# EAGLE library part FRONT-PANEL (library kmod-connectors)
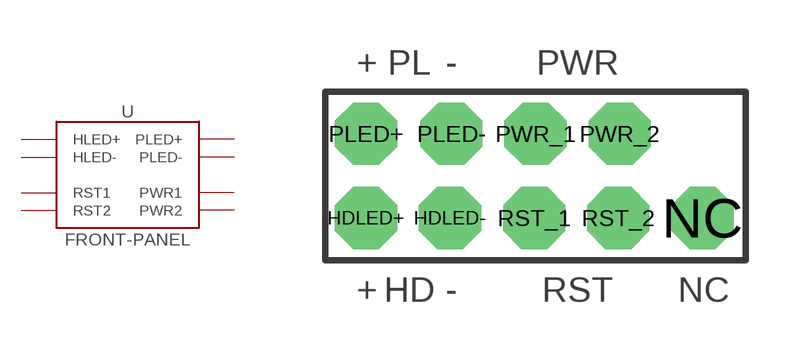
[diagram p15: symbol with the pads of FRONT-PANEL; footprint FRONT-PANEL]

Designator prefix -

## FRONT-PANEL  [FRONT-PANEL]
HDLED+  HLED+
HDLED-  HLED-
PLED+  PLED+
PLED-  PLED-
PWR_1  PWR1
PWR_2  PWR2
RST_1  RST1
RST_2  RST2

## Footprint FRONT-PANEL (pad centres in mm)
Standard(?) front-panel header on motherboards This is the best image I can find: http://www.intel.com/support/motherboards/desktop/sb/img/fpanel.jpg From this larger article: http://www.intel.com/support/motherboards/desktop/sb/CS-020836.htm Apparently the power LEDs can ofter be bidirectional? Doesn't seem to be the case on my SG05 though.
drill 1.016 pad 1.88 octagon: HDLED+ -5.12,-2.54; HDLED- -2.58,-2.54; NC 5.04,-2.54; PLED+ -5.12,0; PLED- -2.54,0; PWR_1 0,0; PWR_2 2.54,0; RST_1 -0.04,-2.54; RST_2 2.5,-2.54